# Altium schematic symbol library 691 253 710 0xx.SchLib: 2 symbols
Pins are listed as number, name and electrical type; pins without a type are passive.

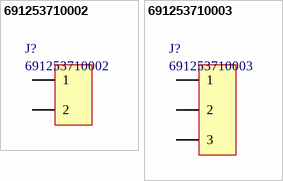
[diagram p0: symbols 691253710002 to 691253710003]

## 691253710002
designator J?
Horizontal Cable Entry with Rising Cage Clamp, Serie 2537 - 5mm; Manufacturer: Wurth Elektronik; ComponentLink1 Description: Manufacturer; ComponentLink2 Description: Datasheet; NoPins: 2; ComponentLink1 URL: http://www.we-online.com; ComponentLink2 URL: http://katalog.we-online.de/en/em/691_253_710_0xx; Created By: Baojun Chen; Created Date: 28.Aug.2015; PartNo: 691253710002
footprint 691253710002 (Serie 2537 - 5.00 mm _ 2 pins)
pins: 1, 2

## 691253710003
designator J?
Horizontal Cable Entry with Rising Cage Clamp, Serie 2537 - 5mm; Manufacturer: Wurth Elektronik; ComponentLink1 Description: Manufacturer; ComponentLink2 Description: Datasheet; NoPins: 3; ComponentLink1 URL: http://www.we-online.com; ComponentLink2 URL: http://katalog.we-online.de/en/em/691_253_710_0xx; Created By: Baojun Chen; Created Date: 28.Aug.2015; PartNo: 691253710003
footprint 691253710003 (Serie 2537 - 5.00 mm _ 3 pins)
pins: 1, 2, 3